# Altium footprint library LTC2067IDD&hash_TRPBF.PcbLib: 3 footprints
Each footprint in its own frame and in the unit in brackets; x right, y up, seen from the top. Pads: shape width x height; smd on the part's side, far side on the other; paste and mask are expansions set on the pad; w line width, h text height; cw(c..) or ccw(c..) is an arc to the next point about the centre after c.
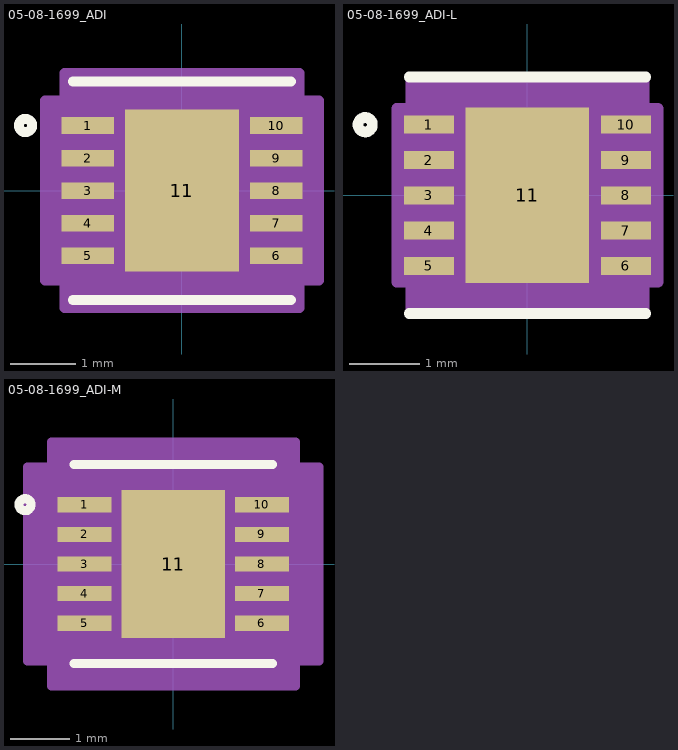
[diagram p0: the footprints below, top view; thin cyan lines are the x and y axes]

## 05-08-1699_ADI [mm]
pads (11):
  rect 0.808x0.255 smd paste+0 mask+0: 1(-1.445,1) 2(-1.445,0.5) 3(-1.445,0) 4(-1.445,-0.5) 5(-1.445,-1) 6(1.445,-1) 7(1.445,-0.5) 8(1.445,0) 9(1.445,0.5) 10(1.445,1)
  rect 1.753x2.489 smd paste+0 mask+0: 11(0,0)
Top Overlay:
  circle w0.152: c-2.4,1 r0.102
  lines w0.152: -1.676,-1.676 1.676,-1.676 ; -1.676,1.676 1.676,1.676
Mechanical 13:
  circle w0: c-1.041,1 r0.076
  lines w0: -0.305,1.549 ccw(c0,1.549) 0.305,1.549
  lines w0.025: -1.549,-1.549 1.549,-1.549 1.549,1.549 -1.549,1.549 -1.549,-1.549
Mechanical 15:
  region: -1.803,-1.381 -2.103,-1.381 -2.103,1.381 -1.803,1.381 -1.803,1.803 1.803,1.803 1.803,1.381 2.103,1.381 2.103,-1.381 1.803,-1.381 1.803,-1.803 -1.803,-1.803
  lines w0.152: -2.103,-1.381 -2.103,1.381 -1.803,1.381 -1.803,1.803 1.803,1.803 1.803,1.381 2.103,1.381 2.103,-1.381 1.803,-1.381 1.803,-1.803 -1.803,-1.803 -1.803,-1.381 -2.103,-1.381
3D body "05-08-1699_ADI.step": height 0.81, standoff 0, extent -1.549,-1.549 1.549,1.549

## 05-08-1699_ADI-L [mm]
pads (11):
  rect 0.708x0.255 smd paste+0 mask+0: 1(-1.395,1) 2(-1.395,0.5) 3(-1.395,0) 4(-1.395,-0.5) 5(-1.395,-1) 6(1.395,-1) 7(1.395,-0.5) 8(1.395,0) 9(1.395,0.5) 10(1.395,1)
  rect 1.753x2.489 smd paste+0 mask+0: 11(0,0)
Top Overlay:
  circle w0.152: c-2.3,1 r0.102
  lines w0.152: -1.676,-1.676 1.676,-1.676 ; -1.676,1.676 1.676,1.676
Mechanical 13:
  circle w0: c-1.041,1 r0.076
  lines w0: -0.305,1.549 ccw(c0,1.549) 0.305,1.549
  lines w0.025: -1.549,-1.549 1.549,-1.549 1.549,1.549 -1.549,1.549 -1.549,-1.549
Mechanical 15:
  region: -1.651,-1.229 -1.851,-1.229 -1.851,1.229 -1.651,1.229 -1.651,1.651 1.651,1.651 1.651,1.229 1.851,1.229 1.851,-1.229 1.651,-1.229 1.651,-1.651 -1.651,-1.651
  lines w0.152: -1.851,-1.229 -1.851,1.229 -1.651,1.229 -1.651,1.651 1.651,1.651 1.651,1.229 1.851,1.229 1.851,-1.229 1.651,-1.229 1.651,-1.651 -1.651,-1.651 -1.651,-1.229 -1.851,-1.229
3D body "05-08-1699_ADI.step": height 0.81, standoff 0, extent -1.549,-1.549 1.549,1.549

## 05-08-1699_ADI-M [mm]
pads (11):
  rect 0.908x0.255 smd paste+0 mask+0: 1(-1.495,1) 2(-1.495,0.5) 3(-1.495,0) 4(-1.495,-0.5) 5(-1.495,-1) 6(1.495,-1) 7(1.495,-0.5) 8(1.495,0) 9(1.495,0.5) 10(1.495,1)
  rect 1.753x2.489 smd paste+0 mask+0: 11(0,0)
Top Overlay:
  circle w0.152: c-2.5,1 r0.102
  lines w0.152: -1.676,-1.676 1.676,-1.676 ; -1.676,1.676 1.676,1.676
Mechanical 13:
  circle w0: c-1.041,1 r0.076
  lines w0: -0.305,1.549 ccw(c0,1.549) 0.305,1.549
  lines w0.025: -1.549,-1.549 1.549,-1.549 1.549,1.549 -1.549,1.549 -1.549,-1.549
Mechanical 15:
  region: -2.057,-1.635 -2.457,-1.635 -2.457,1.635 -2.057,1.635 -2.057,2.057 2.057,2.057 2.057,1.635 2.457,1.635 2.457,-1.635 2.057,-1.635 2.057,-2.057 -2.057,-2.057
  lines w0.152: -2.457,-1.635 -2.457,1.635 -2.057,1.635 -2.057,2.057 2.057,2.057 2.057,1.635 2.457,1.635 2.457,-1.635 2.057,-1.635 2.057,-2.057 -2.057,-2.057 -2.057,-1.635 -2.457,-1.635
3D body "05-08-1699_ADI.step": height 0.81, standoff 0, extent -1.549,-1.549 1.549,1.549